# Altium integrated library BreakoutLib.IntLib: 1 symbol
Pins are listed as number, name and electrical type; pins without a type are passive.

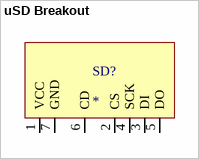
[diagram p0: symbol uSD Breakout]

## uSD Breakout
designator SD?
Sparkfun shifting uSD breakout board.
footprint uSD Breakout (Sparkfun uSD Breakout Board)
pins: 1 VCC, 2 CS, 3 DI, 4 SCK, 5 DO, 6 CD, 7 GND